# EAGLE library part SOT23-8 (library custom)
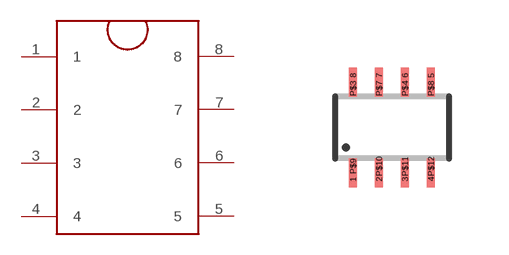
[diagram p2: symbol with the pads of SOT23-8; footprint SOT23-8]

Designator prefix -

## SOT23-8  [SOT23-8]
1  1
2  2
3  3
4  4
5  5
6  6
7  7
8  8

## Footprint SOT23-8 (pad centres in mm)
Small Outline Transistor 8 lead
smd 0.203 x 0.406: 1 -0.975,-1.3; 2 -0.325,-1.3; 3 0.325,-1.3; 4 0.975,-1.3; 5 0.975,1.3; 6 0.325,1.3; 7 -0.325,1.3; 8 -0.975,1.3; P$3 -0.975,0.975; P$4 0.325,0.975; P$7 -0.325,0.975; P$8 0.975,0.975; P$9 -0.975,-0.975; P$10 -0.325,-0.975; P$11 0.325,-0.975; P$12 0.975,-0.975